# Altium schematic symbol library ChipResistors-0805-E24.SchLib: 41 symbols
Pins are listed as number, name and electrical type; pins without a type are passive.

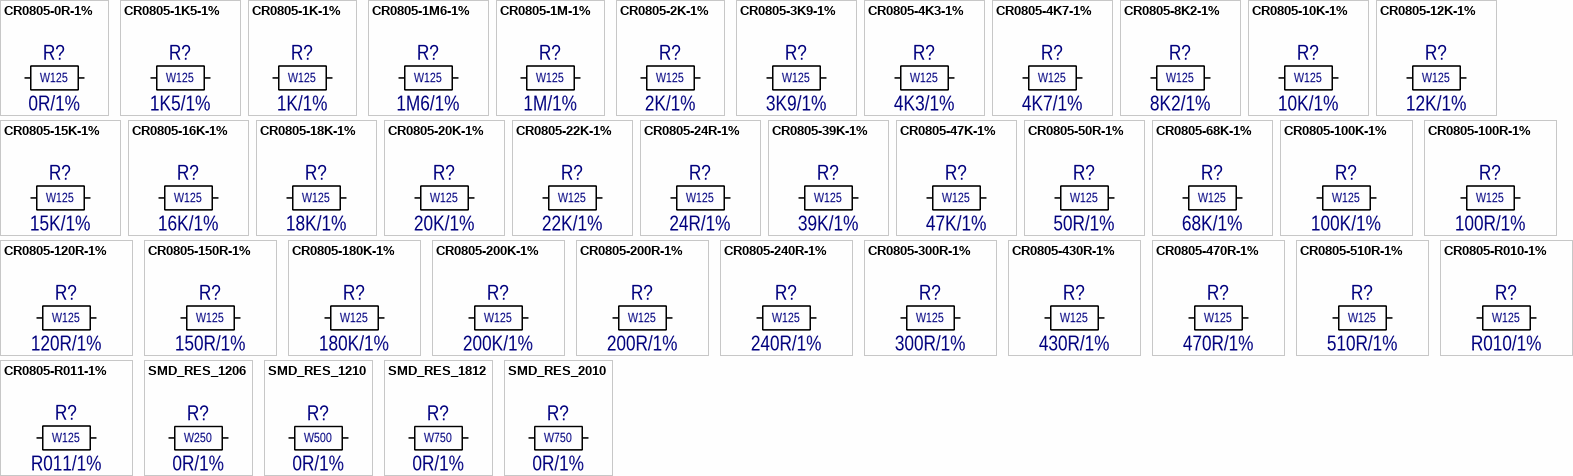
[diagram p0: symbols CR0805-0R-1% to SMD_RES_2010]

## CR0805-0R-1%
designator R?  value 0R/1%  (hidden comment: *)
Film resistor SMD 0805
footprint SMD_RES_0805-L2000-W1250-H500-M0 (Chip Resistor, 2-Leads, Body 2.000x1.250x0.500mm, IPC Medium Density)
pins: 1, 2
text: W125

## CR0805-1K5-1%
designator R?  value 1K5/1%  (hidden comment: *)
Film resistor SMD 0805
footprint SMD_RES_0805-L2000-W1250-H500-M1501 (Chip Resistor, 2-Leads, Body 2.000x1.250x0.500mm, IPC Medium Density)
pins: 1, 2
text: W125

## CR0805-1K-1%
designator R?  value 1K/1%  (hidden comment: *)
Film resistor SMD 0805
footprint SMD_RES_0805-L2000-W1250-H500-M1001 (Chip Resistor, 2-Leads, Body 2.000x1.250x0.500mm, IPC Medium Density)
pins: 1, 2
text: W125

## CR0805-1M6-1%
designator R?  value 1M6/1%  (hidden comment: *)
Film resistor SMD 0805
footprint SMD_RES_0805-L2000-W1250-H500-M1604 (Chip Resistor, 2-Leads, Body 2.000x1.250x0.500mm, IPC Medium Density)
pins: 1, 2
text: W125

## CR0805-1M-1%
designator R?  value 1M/1%  (hidden comment: *)
Film resistor SMD 0805
footprint SMD_RES_0805-L2000-W1250-H500-M1004 (Chip Resistor, 2-Leads, Body 2.000x1.250x0.500mm, IPC Medium Density)
pins: 1, 2
text: W125

## CR0805-2K-1%
designator R?  value 2K/1%  (hidden comment: *)
Film resistor SMD 0805
footprint SMD_RES_0805-L2000-W1250-H500-M2001 (Chip Resistor, 2-Leads, Body 2.000x1.250x0.500mm, IPC Medium Density)
pins: 1, 2
text: W125

## CR0805-3K9-1%
designator R?  value 3K9/1%  (hidden comment: *)
Film resistor SMD 0805
footprint SMD_RES_0805-L2000-W1250-H500-M3901 (Chip Resistor, 2-Leads, Body 2.000x1.250x0.500mm, IPC Medium Density)
pins: 1, 2
text: W125

## CR0805-4K3-1%
designator R?  value 4K3/1%  (hidden comment: *)
Film resistor SMD 0805
footprint SMD_RES_0805-L2000-W1250-H500-M4301 (Chip Resistor, 2-Leads, Body 2.000x1.250x0.500mm, IPC Medium Density)
pins: 1, 2
text: W125

## CR0805-4K7-1%
designator R?  value 4K7/1%  (hidden comment: *)
Film resistor SMD 0805
footprint SMD_RES_0805-L2000-W1250-H500-M4701 (Chip Resistor, 2-Leads, Body 2.000x1.250x0.500mm, IPC Medium Density)
pins: 1, 2
text: W125

## CR0805-8K2-1%
designator R?  value 8K2/1%  (hidden comment: *)
Film resistor SMD 0805
footprint SMD_RES_0805-L2000-W1250-H500-M8201 (Chip Resistor, 2-Leads, Body 2.000x1.250x0.500mm, IPC Medium Density)
pins: 1, 2
text: W125

## CR0805-10K-1%
designator R?  value 10K/1%  (hidden comment: *)
Film resistor SMD 0805
footprint SMD_RES_0805-L2000-W1250-H500-M1002 (Chip Resistor, 2-Leads, Body 2.000x1.250x0.500mm, IPC Medium Density)
pins: 1, 2
text: W125

## CR0805-12K-1%
designator R?  value 12K/1%  (hidden comment: *)
Film resistor SMD 0805
footprint SMD_RES_0805-L2000-W1250-H500-M1202 (Chip Resistor, 2-Leads, Body 2.000x1.250x0.500mm, IPC Medium Density)
pins: 1, 2
text: W125

## CR0805-15K-1%
designator R?  value 15K/1%  (hidden comment: *)
Film resistor SMD 0805
footprint SMD_RES_0805-L2000-W1250-H500-M1502 (Footprint not found)
pins: 1, 2
text: W125

## CR0805-16K-1%
designator R?  value 16K/1%  (hidden comment: *)
Film resistor SMD 0805
footprint SMD_RES_0805-L2000-W1250-H500-M1602 (Chip Resistor, 2-Leads, Body 2.000x1.250x0.500mm, IPC Medium Density)
pins: 1, 2
text: W125

## CR0805-18K-1%
designator R?  value 18K/1%  (hidden comment: *)
Film resistor SMD 0805
footprint SMD_RES_0805-L2000-W1250-H500-M1802 (Chip Resistor, 2-Leads, Body 2.000x1.250x0.500mm, IPC Medium Density)
pins: 1, 2
text: W125

## CR0805-20K-1%
designator R?  value 20K/1%  (hidden comment: *)
Film resistor SMD 0805
footprint SMD_RES_0805-L2000-W1250-H500-M2002 (Chip Resistor, 2-Leads, Body 2.000x1.250x0.500mm, IPC Medium Density)
pins: 1, 2
text: W125

## CR0805-22K-1%
designator R?  value 22K/1%  (hidden comment: *)
Film resistor SMD 0805
footprint SMD_RES_0805-L2000-W1250-H500-M2202 (Chip Resistor, 2-Leads, Body 2.000x1.250x0.500mm, IPC Medium Density)
pins: 1, 2
text: W125

## CR0805-24R-1%
designator R?  value 24R/1%  (hidden comment: *)
Film resistor SMD 0805
footprint SMD_RES_0805-L2000-W1250-H500-M24R0 (Chip Resistor, 2-Leads, Body 2.000x1.250x0.500mm, IPC Medium Density)
pins: 1, 2
text: W125

## CR0805-39K-1%
designator R?  value 39K/1%  (hidden comment: *)
Film resistor SMD 0805
footprint SMD_RES_0805-L2000-W1250-H500-M3902 (Chip Resistor, 2-Leads, Body 2.000x1.250x0.500mm, IPC Medium Density)
pins: 1, 2
text: W125

## CR0805-47K-1%
designator R?  value 47K/1%  (hidden comment: *)
Film resistor SMD 0805
footprint SMD_RES_0805-L2000-W1250-H500-M4702 (Chip Resistor, 2-Leads, Body 2.000x1.250x0.500mm, IPC Medium Density)
pins: 1, 2
text: W125

## CR0805-50R-1%
designator R?  value 50R/1%  (hidden comment: *)
Film resistor SMD 0805
footprint SMD_RES_0805-L2000-W1250-H500-M50R0 (Chip Resistor, 2-Leads, Body 2.000x1.250x0.500mm, IPC Medium Density)
pins: 1, 2
text: W125

## CR0805-68K-1%
designator R?  value 68K/1%  (hidden comment: *)
Film resistor SMD 0805
footprint SMD_RES_0805-L2000-W1250-H500-M6802 (Chip Resistor, 2-Leads, Body 2.000x1.250x0.500mm, IPC Medium Density)
pins: 1, 2
text: W125

## CR0805-100K-1%
designator R?  value 100K/1%  (hidden comment: *)
Film resistor SMD 0805
footprint SMD_RES_0805-L2000-W1250-H500-M1003 (Chip Resistor, 2-Leads, Body 2.000x1.250x0.500mm, IPC Medium Density)
pins: 1, 2
text: W125

## CR0805-100R-1%
designator R?  value 100R/1%  (hidden comment: *)
Film resistor SMD 0805
footprint SMD_RES_0805-L2000-W1250-H500-M1000 (Chip Resistor, 2-Leads, Body 2.000x1.250x0.500mm, IPC Medium Density)
pins: 1, 2
text: W125

## CR0805-120R-1%
designator R?  value 120R/1%  (hidden comment: *)
Film resistor SMD 0805
footprint SMD_RES_0805-L2000-W1250-H500-M1200 (Chip Resistor, 2-Leads, Body 2.000x1.250x0.500mm, IPC Medium Density)
pins: 1, 2
text: W125

## CR0805-150R-1%
designator R?  value 150R/1%  (hidden comment: *)
Film resistor SMD 0805
footprint SMD_RES_0805-L2000-W1250-H500-M1500 (Chip Resistor, 2-Leads, Body 2.000x1.250x0.500mm, IPC Medium Density)
pins: 1, 2
text: W125

## CR0805-180K-1%
designator R?  value 180K/1%  (hidden comment: *)
Film resistor SMD 0805
footprint SMD_RES_0805-L2000-W1250-H500-M1803 (Chip Resistor, 2-Leads, Body 2.000x1.250x0.500mm, IPC Medium Density)
pins: 1, 2
text: W125

## CR0805-200K-1%
designator R?  value 200K/1%  (hidden comment: *)
Film resistor SMD 0805
footprint SMD_RES_0805-L2000-W1250-H500 (Chip Resistor, 2-Leads, Body 2.000x1.250x0.500mm, IPC Medium Density)
pins: 1, 2
text: W125

## CR0805-200R-1%
designator R?  value 200R/1%  (hidden comment: *)
Film resistor SMD 0805
footprint SMD_RES_0805-L2000-W1250-H500-M2000 (Chip Resistor, 2-Leads, Body 2.000x1.250x0.500mm, IPC Medium Density)
pins: 1, 2
text: W125

## CR0805-240R-1%
designator R?  value 240R/1%  (hidden comment: *)
Film resistor SMD 0805
footprint SMD_RES_0805-L2000-W1250-H500-M2400 (Chip Resistor, 2-Leads, Body 2.000x1.250x0.500mm, IPC Medium Density)
pins: 1, 2
text: W125

## CR0805-300R-1%
designator R?  value 300R/1%  (hidden comment: *)
Film resistor SMD 0805
footprint SMD_RES_0805-L2000-W1250-H500-M3000 (Chip Resistor, 2-Leads, Body 2.000x1.250x0.500mm, IPC Medium Density)
pins: 1, 2
text: W125

## CR0805-430R-1%
designator R?  value 430R/1%  (hidden comment: *)
Film resistor SMD 0805
footprint SMD_RES_0805-L2000-W1250-H500 (Chip Resistor, 2-Leads, Body 2.000x1.250x0.500mm, IPC Medium Density)
pins: 1, 2
text: W125

## CR0805-470R-1%
designator R?  value 470R/1%  (hidden comment: *)
Film resistor SMD 0805
footprint SMD_RES_0805-L2000-W1250-H500-M4700 (Chip Resistor, 2-Leads, Body 2.000x1.250x0.500mm, IPC Medium Density)
pins: 1, 2
text: W125

## CR0805-510R-1%
designator R?  value 510R/1%  (hidden comment: *)
Film resistor SMD 0805
footprint SMD_RES_0805-L2000-W1250-H500-M5100 (Chip Resistor, 2-Leads, Body 2.000x1.250x0.500mm, IPC Medium Density)
pins: 1, 2
text: W125

## CR0805-R010-1%
designator R?  value R010/1%  (hidden comment: *)
Film resistor SMD 0805
pins: 1, 2
text: W125

## CR0805-R011-1%
designator R?  value R011/1%  (hidden comment: *)
Film resistor SMD 0805
pins: 1, 2
text: W125

## SMD_RES_1206
designator R?  value 0R/1%  (hidden comment: *)
Film resistor SMD 1206; Resistance: 0R; Accuracy: 1%
footprint RES1206 (Chip Resistor, 2-Leads, Body 3,15x1,60mm, IPC Medium Density)
pins: 1, 2
text: W250

## SMD_RES_1210
designator R?  value 0R/1%  (hidden comment: *)
Film resistor SMD 1210; Resistance: 0R; Accuracy: 1%
footprint RES1210 (Chip Resistor, 2-Leads, Body 3,20x2,50mm, IPC Medium Density)
pins: 1, 2
text: W500

## SMD_RES_1812
designator R?  value 0R/1%  (hidden comment: *)
Film resistor SMD 1210; Resistance: 0R; Accuracy: 1%
pins: 1, 2
text: W750

## SMD_RES_2010
designator R?  value 0R/1%  (hidden comment: *)
Film resistor SMD 1210; Resistance: 0R; Accuracy: 1%
pins: 1, 2
text: W750

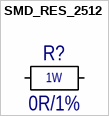
[diagram p1: symbol SMD_RES_2512]

## SMD_RES_2512
designator R?  value 0R/1%  (hidden comment: *)
Film resistor SMD 1210; Resistance: 0R; Accuracy: 1%
footprint RES2512 (Chip Resistor, 2-Leads, Body 6,40x3,20mm, IPC Medium Density)
pins: 1, 2
text: 1W